# Altium schematic symbol library 05E_ShareComponentLibrary.SchLib: 12 symbols
Pins are listed as number, name and electrical type; pins without a type are passive.

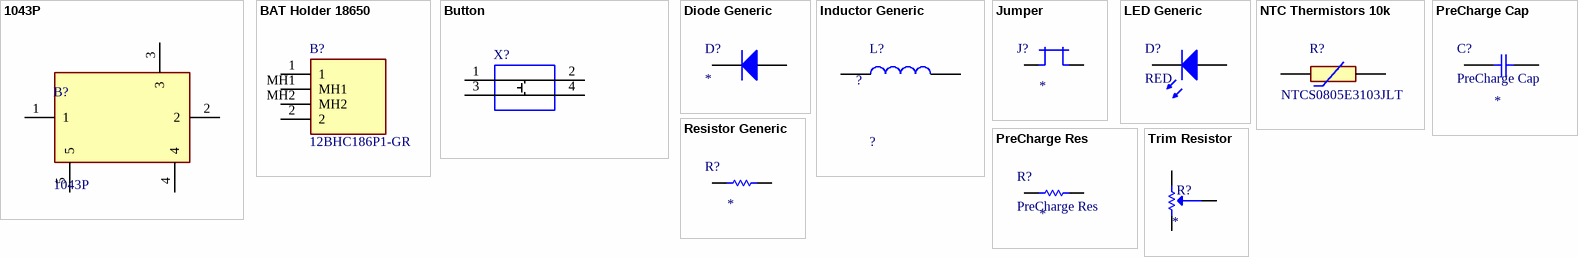
[diagram p0: symbols 1043P to Trim Resistor]

## 1043P
designator B?
KEYSTONE - 1043P - BATTERY HOLDER, 18650, TH; Manufacturer_Name: Keystone Electronics; Geometry.Height: 14mm; Mouser Part Number: 534-1043P; Mouser Price/Stock: https://www.mouser.co.uk/ProductDetail/Keystone-Electronics/1043P?qs=9%252Bwcgl%2FJqd0noXze75IwgQ%3D%3D; Manufacturer_Part_Number: 1043P; Datasheet Link: http://www.keyelco.com/product-pdf.cfm?p=13958
footprint 1043P-BAT_HOLDER_18650
pins: 1, 2, 3, 4, 5

## BAT Holder 18650
designator B?, comment 12BHC186P1-GR
1 "18650" Battery Holder; Manufacturer_Name: Eagle Plastic Devices; Geometry.Height: 20.5mm; Mouser Part Number: 12BHC186P1-GR; Mouser Price/Stock: https://www.mouser.co.uk/ProductDetail/Eagle-Plastic-Devices/12BHC186P1-GR?qs=yqaQSyyJnNiNkNtwVjdKJQ%3D%3D; Manufacturer_Part_Number: 12BHC186P1-GR; Datasheet Link: https://www.mouser.co.il/datasheet/2/209/EaglePlastics_EPD_201001-1902272.pdf
footprint BAT_HOLDER_18650
pins: 1, 2, MH1, MH2

## Button
designator X?, comment 4 pin button generic
Tact switch,PTH, 4 pin, 6mm x 6mm; Manufacturer_Name: ALPS Electric; Manufacturer_Part_Number: SKHHBWA010; Mouser Part Number: 688-SKHHBW; Mouser Price/Stock: https://www.mouser.co.uk/ProductDetail/ALPS/SKHHBWA010?qs=fMKjfF2mFojdVA4ViPP%252BGg%3D%3D; Datasheet Link: *
footprint Button
pins: 1, 2, 3, 4

## Diode Generic
designator D?
SMD Diode
footprint 0603_SMD_RC
footprint 0805_SMD_RC
pins: 1, 2

## Inductor Generic
designator L?, comment ?
SMD Inductor; Value: ?
footprint 1616_SMD_L
pins: 1, 2

## Jumper
designator J?
Jumper; Value: *
footprint 0603_JUMPER
footprint HDR_1X2_THD (Connector; Header; 2 Position)
footprint HDR_1X2_THD_ANGLE (Connector; Header; 2 Position)
pins: 1, 2

## LED Generic
designator D?, comment RED
SMD LED
footprint 0603_SMD_RC
footprint 0805_SMD_RC
pins: 1, 2

## NTC Thermistors 10k
designator R?, comment NTCS0805E3103JLT
VISHAY - NTCS0805E3103JLT - THERMISTOR, 10K, 5%, SMD, NTC; Geometry.Height: 0.95mm; Mouser Part Number: 594-NTCS0805E3103JLT; Mouser Price/Stock: https://www.mouser.co.uk/ProductDetail/Vishay-BC-Components/NTCS0805E3103JLT?qs=%2FWiulJ9oly7qHulk24FdsA%3D%3D; Manufacturer_Name: Vishay; Manufacturer_Part_Number: NTCS0805E3103JLT; Datasheet Link: http://www.vishay.com/docs/29044/ntcs0805e3t.pdf
footprint NTC_0805
pins: 1, 2

## PreCharge Cap
designator C?
Value: *
footprint TE_796980-2
pins: 1, 2

## PreCharge Res
designator R?
Value: *
footprint TE_796980-2
pins: 1, 2

## Resistor Generic
designator R?
SMD Resistor; Value: *
footprint 0603_SMD_RC
footprint 0805_SMD_RC
pins: 1, 2

## Trim Resistor
designator R?, comment Resistor Generic  (value not drawn)
Trimport resistor3362P; Value: *
footprint 3362P_1
pins: 1, 2, 3